# Altium integrated library Transistor.IntLib: 3457 symbols (part 64 of 78)
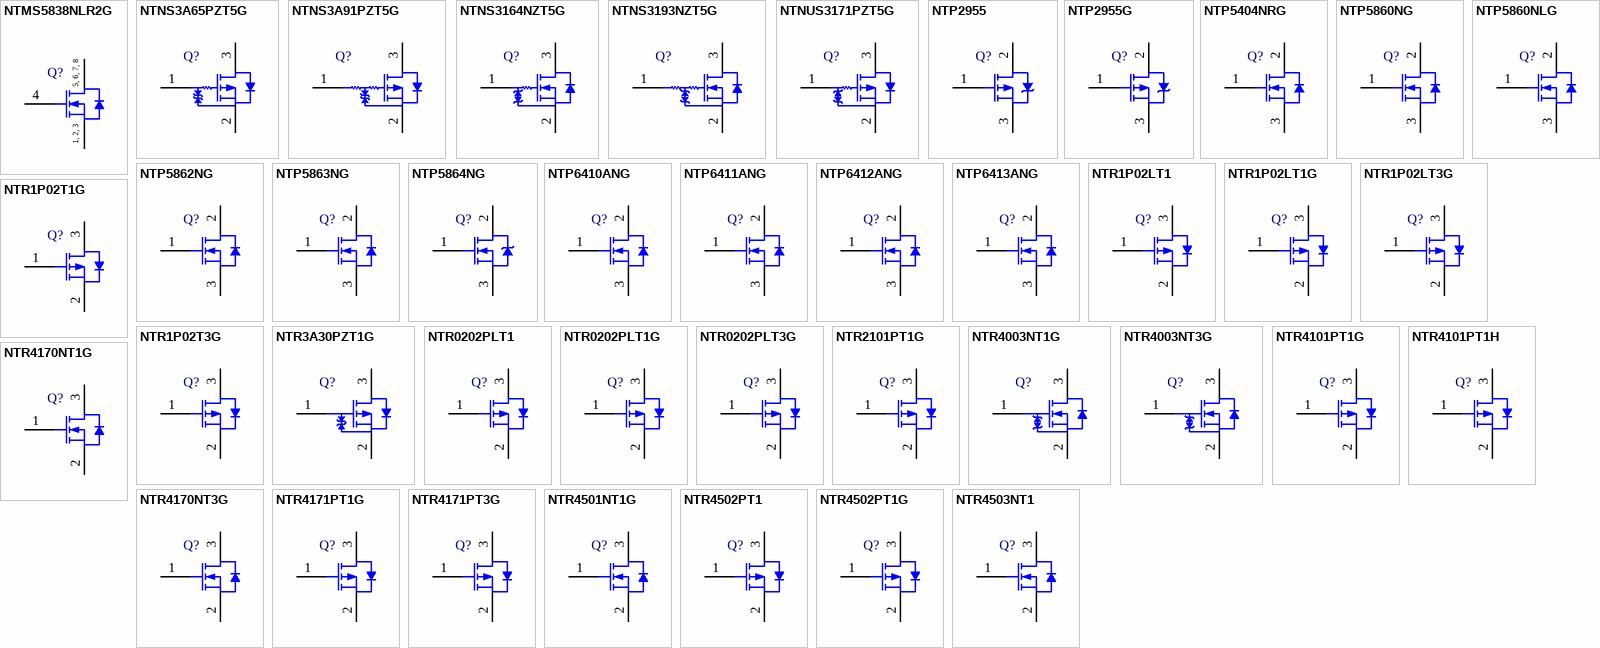
[diagram p157: symbols NTMS5838NLR2G to NTR4503NT1]

## NTNS3193NZT5G
designator Q?
Small Signal MOSFET, 20 V, 224 mA, Single N-Channel, 3-Pin XLLGA, Pb-Free, Tape and Reel; Manufacturer: On Semiconductor; PartNumber: NTNS3193NZT5G; Channel Polarity: N Channel; Ciss Typ (pF): 15.8; Coss Typ (pF): 3.5; Crss Typ (pF): 2.4; ID Max (A): 0.224; V(BR)DSS Min (V): 20; VGS Max (V): 8; VGS(th) Max (V): 1; DatasheetVersion: Rev. 1; PackageVersion: Rev. O, 09/2012; PackageReference: XLLGA-3-713AB; PackageDescription: 3-Pin Ultra Small and Thin Package, Body 0.62 x 0.62 mm, Pitch 0.35 mm; Configuration: Single; Package Type: xLLGA-3; Packing: Tape and Reel; RoHS: Pb-Free; Mounting Technology: Surface Mount; ComponentLink1Description: Manufacturer URL; ComponentLink1URL: http://www.onsemi.com/; ComponentLink2Description: Datasheet; ComponentLink2URL: http://www.onsemi.cn/pub_link/Collateral/NTNS3193NZ-D.PDF; ComponentLink3Description: Package Specification; ComponentLink3URL: http://www.onsemi.cn/pub_link/Collateral/713AB.PDF
footprint ONSC-XLLGA-3-713AB_V (XLLGA, 3-Leads, Body 0.62x0.62mm, Pitch 0.35mm)
pins: 1 G, 2 S, 3 D

## NTNUS3171PZT5G
designator Q?
Small Signal MOSFET, -20 V, -200 mA, Single P-Channel, 3-Pin SOT-1123, Pb-Free, Tape and Reel; Manufacturer: On Semiconductor; PartNumber: NTNUS3171PZT5G; Channel Polarity: P Channel; Ciss Typ (pF): 13; Coss Typ (pF): 3.4; Crss Typ (pF): 1.6; ID Max (A): 0.2; V(BR)DSS Min (V): 20; VGS Max (V): 8; VGS(th) Max (V): 1; DatasheetVersion: Rev. 1; PackageVersion: Rev. C, 11/2011; PackageReference: SOT-1123-3-524AA; PackageDescription: 3-Pin Small Outline Transistor, Body 0.8 x 0.6 mm, Pitch 0.375 mm; Configuration: Single; Package Type: SOT-1123-3; Packing: Tape and Reel; RoHS: Pb-Free; Mounting Technology: Surface Mount; ComponentLink1Description: Manufacturer URL; ComponentLink1URL: http://www.onsemi.com/; ComponentLink2Description: Datasheet; ComponentLink2URL: http://www.onsemi.cn/pub_link/Collateral/NTNUS3171PZ-D.PDF; ComponentLink3Description: Package Specification; ComponentLink3URL: http://www.onsemi.cn/pub_link/Collateral/524AA.PDF
footprint ONSC-SOT-1123-3-524AA_V (SOT223, 3-Leads, Body 0.8x0.6mm, Pitch 0.38mm)
pins: 1 G, 2 S, 3 D

## NTP2955
designator Q?
Power MOSFET, -60 V, -12 A, Single P-Channel, 3-Pin TO-220, Tube; Manufacturer: On Semiconductor; PartNumber: NTP2955; Channel Polarity: P Channel; Ciss Typ (pF): 507; Coss Typ (pF): 150; Crss Typ (pF): 48; ID Max (A): 12; Qrr Typ (nC): 126; V(BR)DSS Min (V): 60; VGS Max (V): 20; VGS(th) Max (V): 4; DatasheetVersion: Rev. 2; PackageVersion: Rev. AA; PackageReference: TO-220-3-221A-09_AA; PackageDescription: 3-Pin Flange Mount, Vertical Straight Lead, Body 9.97 x 4.445 mm, Pitch 2.54 mm; Configuration: Single; Package Type: TO-220-3; Packing: Tube; Mounting Technology: Through Hole; ComponentLink1Description: Manufacturer URL; ComponentLink1URL: http://www.onsemi.com/; ComponentLink2Description: Datasheet; ComponentLink2URL: http://www.onsemi.cn/pub_link/Collateral/NTP2955-D.PDF; ComponentLink3Description: Package Specification; ComponentLink3URL: http://www.onsemi.com/pub_link/Collateral/MAC16C-D.PDF
footprint ONSC-TO-220-3-221A-09_AA (FM, 3-Leads, Body 10.3x4.85mm, Pitch 2.54mm)
pins: 1 G, 2 D, 3 S

## NTP2955G
designator Q?
Power MOSFET, -60 V, -12 A, Single P-Channel, 3-Pin TO-220, Pb-Free, Tube; Manufacturer: On Semiconductor; PartNumber: NTP2955G; Channel Polarity: P Channel; Ciss Typ (pF): 507; Coss Typ (pF): 150; Crss Typ (pF): 48; ID Max (A): 12; Qrr Typ (nC): 126; V(BR)DSS Min (V): 60; VGS Max (V): 20; VGS(th) Max (V): 4; DatasheetVersion: Rev. 2; PackageVersion: Rev. AA; PackageReference: TO-220-3-221A-09_AA; PackageDescription: 3-Pin Flange Mount, Vertical Straight Lead, Body 9.97 x 4.445 mm, Pitch 2.54 mm; Configuration: Single; Package Type: TO-220-3; Packing: Tube; RoHS: Pb-Free; Mounting Technology: Through Hole; ComponentLink1Description: Manufacturer URL; ComponentLink1URL: http://www.onsemi.com/; ComponentLink2Description: Datasheet; ComponentLink2URL: http://www.onsemi.cn/pub_link/Collateral/NTP2955-D.PDF; ComponentLink3Description: Package Specification; ComponentLink3URL: http://www.onsemi.com/pub_link/Collateral/MAC16C-D.PDF
footprint ONSC-TO-220-3-221A-09_AA (FM, 3-Leads, Body 10.3x4.85mm, Pitch 2.54mm)
pins: 1 G, 2 D, 3 S

## NTP5404NRG
designator Q?
Power MOSFET, 40 V, 167 A, Single N-Channel, 3-Pin TO-220, Pb-Free, Tube; Manufacturer: On Semiconductor; PartNumber: NTP5404NRG; Channel Polarity: N Channel; Ciss Typ (pF): 4300; Coss Typ (pF): 1075; Crss Typ (pF): 450; ID Max (A): 167; Qrr Typ (nC): 140; V(BR)DSS Min (V): 40; VGS Max (V): 20; VGS(th) Max (V): 3.5; DatasheetVersion: Rev. 7; PackageVersion: Rev. AG, 09/2011; PackageReference: TO-220-3-221A-09; PackageDescription: 3-Pin Flange Mount, Vertical Straight Lead, Body 9.97 x 4.445 mm, Pitch 2.54 mm; Configuration: Single; Package Type: TO-220-3; Packing: Tube; RoHS: Pb-Free; Mounting Technology: Through Hole; ComponentLink1Description: Manufacturer URL; ComponentLink1URL: http://www.onsemi.com/; ComponentLink2Description: Datasheet; ComponentLink2URL: http://www.onsemi.cn/pub_link/Collateral/NTB5404N-D.PDF; ComponentLink3Description: Package Specification; ComponentLink3URL: http://www.onsemi.com/pub_link/Collateral/221A-09.PDF
footprint ONSC-TO-220-3-221A-09 (FM, 3-Leads, Body 10.3x4.85mm, Pitch 2.54mm)
pins: 1 G, 2 D, 3 S

## NTP5860NG
designator Q?
N-Channel Power MOSFET, 60 V, 220 A, 3 mOhm, 3-Pin TO-220, Pb-Free, Tube; Manufacturer: On Semiconductor; PartNumber: NTP5860NG; Channel Polarity: N Channel; Ciss Typ (pF): 10760; Configuration: Single; Coss Typ (pF): 1125; Crss Typ (pF): 700; ID Max (A): 220; PD Max (W): 283; Qrr Typ (nC): 76; V(BR)DSS Min (V): 60; VGS Max (V): 20; VGS(th) Max (V): 4; DatasheetVersion: Rev. 2; PackageVersion: Rev. AF; PackageReference: TO-220-3-221A-09_AF; PackageDescription: 3-Pin Flange Mount, Vertical Straight Lead, Body 9.97 x 4.445 mm, Pitch 2.54 mm; Package Type: TO-220-3; Packing: Tube; RoHS: Pb-Free; Mounting Technology: Through Hole; ComponentLink1Description: Manufacturer URL; ComponentLink1URL: http://www.onsemi.com/; ComponentLink2Description: Datasheet; ComponentLink2URL: http://www.onsemi.cn/pub_link/Collateral/NTB5860N-D.PDF; ComponentLink3Description: Package Specification; ComponentLink3URL: http://www.onsemi.cn/pub_link/Collateral/MCR8S-D.PDF
footprint ONSC-TO-220-3-221A-09_AF (FM, 3-Leads, Body 10.3x4.85mm, Pitch 2.54mm)
pins: 1 G, 2 D, 3 S

## NTP5860NLG
designator Q?
N-Channel Power MOSFET, 60 V, 220 A, 3 mOhm, 3-Pin TO-220, Pb-Free, Tube; Manufacturer: On Semiconductor; PartNumber: NTP5860NLG; Channel Polarity: N Channel; Ciss Typ (pF): 13216; Configuration: Single; Coss Typ (pF): 1127; Crss Typ (pF): 752; ID Max (A): 220; PD Max (W): 283; Qrr Typ (nC): 71; V(BR)DSS Min (V): 60; VGS Max (V): 20; VGS(th) Max (V): 3; DatasheetVersion: Rev. 1; PackageVersion: Rev. AF; PackageReference: TO-220-3-221A-09_AF; PackageDescription: 3-Pin Flange Mount, Vertical Straight Lead, Body 9.97 x 4.445 mm, Pitch 2.54 mm; Package Type: TO-220-3; Packing: Tube; RoHS: Pb-Free; Mounting Technology: Through Hole; ComponentLink1Description: Manufacturer URL; ComponentLink1URL: http://www.onsemi.com/; ComponentLink2Description: Datasheet; ComponentLink2URL: http://www.onsemi.cn/pub_link/Collateral/NTB5860NL-D.PDF; ComponentLink3Description: Package Specification; ComponentLink3URL: http://www.onsemi.cn/pub_link/Collateral/MCR8S-D.PDF
footprint ONSC-TO-220-3-221A-09_AF (FM, 3-Leads, Body 10.3x4.85mm, Pitch 2.54mm)
pins: 1 G, 2 D, 3 S

## NTP5862NG
designator Q?
N-Channel Power MOSFET, 60 V, 98 A, 5.7 mOhm, 3-Pin TO-220, Pb-Free, Tube; Manufacturer: On Semiconductor; PartNumber: NTP5862NG; Channel Polarity: N Channel; Ciss Typ (pF): 5050; Configuration: Single; Coss Typ (pF): 500; Crss Typ (pF): 300; ID Max (A): 98; PD Max (W): 115; Qrr Typ (nC): 40; V(BR)DSS Min (V): 60; VGS(th) Max (V): 4; DatasheetVersion: Rev. 2; PackageVersion: Rev. AG, 09/2011; PackageReference: TO-220-3-221A-09; PackageDescription: 3-Pin Flange Mount, Vertical Straight Lead, Body 9.97 x 4.445 mm, Pitch 2.54 mm; Package Type: DPAK-3, IPAK-4; Packing: Tube; RoHS: Pb-Free; Mounting Technology: Through Hole; ComponentLink1Description: Manufacturer URL; ComponentLink1URL: http://www.onsemi.com/; ComponentLink2Description: Datasheet; ComponentLink2URL: http://www.onsemi.com/pub_link/Collateral/NTD5862N-D.PDF; ComponentLink3Description: Package Specification; ComponentLink3URL: http://www.onsemi.com/pub_link/Collateral/221A-09.PDF
footprint ONSC-TO-220-3-221A-09 (FM, 3-Leads, Body 10.3x4.85mm, Pitch 2.54mm)
pins: 1 G, 2 D, 3 S

## NTP5863NG
designator Q?
N-Channel Power MOSFET, 60 V, 97 A, 7.8 mOhm, 3-Pin TO-220, Pb-Free, Tube; Manufacturer: On Semiconductor; PartNumber: NTP5863NG; Channel Polarity: N Channel; Ciss Typ (pF): 3200; Configuration: Single; Coss Typ (pF): 350; Crss Typ (pF): 230; ID Max (A): 97; PD Max (W): 150; Qrr Typ (nC): 28; V(BR)DSS Min (V): 60; VGS Max (V): 20; VGS(th) Max (V): 4; DatasheetVersion: Rev. 2; PackageVersion: Rev. AF; PackageReference: TO-220-3-221A-09_AF; PackageDescription: 3-Pin Flange Mount, Vertical Straight Lead, Body 9.97 x 4.445 mm, Pitch 2.54 mm; Package Type: TO-220-3; Packing: Tube; RoHS: Pb-Free; Mounting Technology: Through Hole; ComponentLink1Description: Manufacturer URL; ComponentLink1URL: http://www.onsemi.com/; ComponentLink2Description: Datasheet; ComponentLink2URL: http://www.onsemi.cn/pub_link/Collateral/NTP5863N-D.PDF; ComponentLink3Description: Package Specification; ComponentLink3URL: http://www.onsemi.cn/pub_link/Collateral/MCR8S-D.PDF
footprint ONSC-TO-220-3-221A-09_AF (FM, 3-Leads, Body 10.3x4.85mm, Pitch 2.54mm)
pins: 1 G, 2 D, 3 S

## NTP5864NG
designator Q?
Power MOSFET, 60 V, 63 A, 12.4 mOhm, 3-Pin TO-220, Pb-Free, Tube; Manufacturer: On Semiconductor; PartNumber: NTP5864NG; Channel Polarity: N Channel; Ciss Typ (pF): 1680; Configuration: Single; Coss Typ (pF): 189; Crss Typ (pF): 124; ID Max (A): 63; Qrr Typ (nC): 20; V(BR)DSS Min (V): 60; VGS(th) Max (V): 4; DatasheetVersion: Rev. 0; PackageVersion: Rev. AF; PackageReference: TO-220-3-221A-09_AF; PackageDescription: 3-Pin Flange Mount, Vertical Straight Lead, Body 9.97 x 4.445 mm, Pitch 2.54 mm; Package Type: TO-220-3; Packing: Tube; RoHS: Pb-Free; VGS Max (V): 20; Mounting Technology: Through Hole; ComponentLink1Description: Manufacturer URL; ComponentLink1URL: http://www.onsemi.com/; ComponentLink2Description: Datasheet; ComponentLink2URL: http://www.onsemi.cn/pub_link/Collateral/NTP5864N-D.PDF; ComponentLink3Description: Package Specification; ComponentLink3URL: http://www.onsemi.cn/pub_link/Collateral/MCR8S-D.PDF
footprint ONSC-TO-220-3-221A-09_AF (FM, 3-Leads, Body 10.3x4.85mm, Pitch 2.54mm)
pins: 1 G, 2 D, 3 S

## NTP6410ANG
designator Q?
N-Channel Power MOSFET, 100 V, 76 A, 13 mOhm, 3-Pin TO-220, Pb-Free, Tube; Manufacturer: On Semiconductor; PartNumber: NTP6410ANG; Channel Polarity: N Channel; Ciss Typ (pF): 4500; Configuration: Single; Coss Typ (pF): 650; Crss Typ (pF): 250; ID Max (A): 76; PD Max (W): 188; Qrr Typ (nC): 300; V(BR)DSS Min (V): 100; VGS Max (V): 20; VGS(th) Max (V): 4; DatasheetVersion: Rev. 1; PackageVersion: Rev. AG, 09/2011; PackageReference: TO-220-3-221A-09; PackageDescription: 3-Pin Flange Mount, Vertical Straight Lead, Body 9.97 x 4.445 mm, Pitch 2.54 mm; Package Type: TO-220-3; Packing: Tube; RoHS: Pb-Free; Mounting Technology: Through Hole; ComponentLink1Description: Manufacturer URL; ComponentLink1URL: http://www.onsemi.com/; ComponentLink2Description: Datasheet; ComponentLink2URL: http://www.onsemi.cn/pub_link/Collateral/NTB6410AN-D.PDF; ComponentLink3Description: Package Specification; ComponentLink3URL: http://www.onsemi.com/pub_link/Collateral/221A-09.PDF
footprint ONSC-TO-220-3-221A-09 (FM, 3-Leads, Body 10.3x4.85mm, Pitch 2.54mm)
pins: 1 G, 2 D, 3 S

## NTP6411ANG
designator Q?
N-Channel Power MOSFET, 100 V, 77 A, 14 mOhm, 3-Pin TO-220, Pb-Free, Tube; Manufacturer: On Semiconductor; PartNumber: NTP6411ANG; Channel Polarity: N Channel; Ciss Typ (pF): 3700; Configuration: Single; Coss Typ (pF): 550; Crss Typ (pF): 200; ID Max (A): 77; PD Max (W): 217; Qrr Typ (nC): 330; V(BR)DSS Min (V): 100; VGS Max (V): 20; VGS(th) Max (V): 4; DatasheetVersion: Rev. 1; PackageVersion: Rev. AF; PackageReference: TO-220-3-221A-09_AF; PackageDescription: 3-Pin Flange Mount, Vertical Straight Lead, Body 9.97 x 4.445 mm, Pitch 2.54 mm; Package Type: TO-220-3; Packing: Tube; RoHS: Pb-Free; Mounting Technology: Through Hole; ComponentLink1Description: Manufacturer URL; ComponentLink1URL: http://www.onsemi.com/; ComponentLink2Description: Datasheet; ComponentLink2URL: http://www.onsemi.cn/pub_link/Collateral/NTB6411N-D.PDF; ComponentLink3Description: Package Specification; ComponentLink3URL: http://www.onsemi.cn/pub_link/Collateral/MCR8S-D.PDF
footprint ONSC-TO-220-3-221A-09_AF (FM, 3-Leads, Body 10.3x4.85mm, Pitch 2.54mm)
pins: 1 G, 2 D, 3 S

## NTP6412ANG
designator Q?
N-Channel Power MOSFET, 100 V, 58 A, 18.2 mOhm, 3-Pin TO-220, Pb-Free, Tube; Manufacturer: On Semiconductor; PartNumber: NTP6412ANG; Channel Polarity: N Channel; Ciss Typ (pF): 2700; Configuration: Single; Coss Typ (pF): 400; Crss Typ (pF): 150; ID Max (A): 58; PD Max (W): 167; Qrr Typ (nC): 270; V(BR)DSS Min (V): 100; VGS Max (V): 20; VGS(th) Max (V): 4; DatasheetVersion: Rev. 1; PackageVersion: Rev. AG, 09/2011; PackageReference: TO-220-3-221A-09; PackageDescription: 3-Pin Flange Mount, Vertical Straight Lead, Body 9.97 x 4.445 mm, Pitch 2.54 mm; Package Type: TO-220-3; Packing: Tube; RoHS: Pb-Free; Mounting Technology: Through Hole; ComponentLink1Description: Manufacturer URL; ComponentLink1URL: http://www.onsemi.com/; ComponentLink2Description: Datasheet; ComponentLink2URL: http://www.onsemi.cn/pub_link/Collateral/NTB6412AN-D.PDF; ComponentLink3Description: Package Specification; ComponentLink3URL: http://www.onsemi.com/pub_link/Collateral/221A-09.PDF
footprint ONSC-TO-220-3-221A-09 (FM, 3-Leads, Body 10.3x4.85mm, Pitch 2.54mm)
pins: 1 G, 2 D, 3 S

## NTP6413ANG
designator Q?
N-Channel Power MOSFET, 100 V, 42 A, 28 mOhm, 3-Pin TO-220, Pb-Free, Tube; Manufacturer: On Semiconductor; PartNumber: NTP6413ANG; Channel Polarity: N Channel; Ciss Typ (pF): 1800; Configuration: Single; Coss Typ (pF): 280; Crss Typ (pF): 100; ID Max (A): 42; PD Max (W): 136; Qrr Typ (nC): 230; VGS Max (V): 20; VGS(th) Max (V): 4; DatasheetVersion: Rev. 3; PackageVersion: Rev. AG, 09/2011; PackageReference: TO-220-3-221A-09; PackageDescription: 3-Pin Flange Mount, Vertical Straight Lead, Body 9.97 x 4.445 mm, Pitch 2.54 mm; Package Type: TO-220-3; Packing: Tube; RoHS: Pb-Free; V(BR)DSS Min (V): 100; Mounting Technology: Through Hole; ComponentLink1Description: Manufacturer URL; ComponentLink1URL: http://www.onsemi.com/; ComponentLink2Description: Datasheet; ComponentLink2URL: http://www.onsemi.cn/pub_link/Collateral/NTB6413AN-D.PDF; ComponentLink3Description: Package Specification; ComponentLink3URL: http://www.onsemi.com/pub_link/Collateral/221A-09.PDF
footprint ONSC-TO-220-3-221A-09 (FM, 3-Leads, Body 10.3x4.85mm, Pitch 2.54mm)
pins: 1 G, 2 D, 3 S

## NTR1P02LT1
designator Q?
Power MOSFET, -20 V, -1.3 A, P-Channel, 3-Pin SOT-23, Tape and Reel; Manufacturer: On Semiconductor; PartNumber: NTR1P02LT1; Channel Polarity: P Channel; Ciss Typ (pF): 225; Configuration: Single; Coss Typ (pF): 130; Crss Typ (pF): 55; ID Max (A): 1.3; PD Max (W): 0.4; Qrr Typ (nC): 8.5; V(BR)DSS Min (V): 20; VGS Max (V): 12; VGS(th) Max (V): 1.25; DatasheetVersion: Rev. 13; PackageVersion: Rev. AP, 11/2009; PackageReference: SOT-23-3-318-08; PackageDescription: 3-Pin Small Outline Transistor, Body 2.92 x 1.3 mm, Pitch 0.95 mm; Package Type: SOT-23-3; Packing: Tape and Reel; Mounting Technology: Surface Mount; ComponentLink1Description: Manufacturer URL; ComponentLink1URL: http://www.onsemi.com/; ComponentLink2Description: Datasheet; ComponentLink2URL: http://www.onsemi.cn/pub_link/Collateral/NTR1P02LT1-D.PDF; ComponentLink3Description: Package Specification; ComponentLink3URL: http://www.onsemi.cn/pub_link/Collateral/318-08.PDF
footprint ONSC-SOT-23-3-318-08_V (SOT23, 3-Leads, Body 2.92x1.3mm, Pitch 0.95mm)
pins: 1 G, 2 S, 3 D

## NTR1P02LT1G
designator Q?
Power MOSFET, -20 V, -1.3 A, P-Channel, 3-Pin SOT-23, Pb-Free, Tape and Reel; Manufacturer: On Semiconductor; PartNumber: NTR1P02LT1G; Channel Polarity: P Channel; Ciss Typ (pF): 225; Configuration: Single; Coss Typ (pF): 130; Crss Typ (pF): 55; ID Max (A): 1.3; PD Max (W): 0.4; Qrr Typ (nC): 8.5; V(BR)DSS Min (V): 20; VGS Max (V): 12; VGS(th) Max (V): 1.25; DatasheetVersion: Rev. 13; PackageVersion: Rev. AP, 11/2009; PackageReference: SOT-23-3-318-08; PackageDescription: 3-Pin Small Outline Transistor, Body 2.92 x 1.3 mm, Pitch 0.95 mm; Package Type: SOT-23-3; Packing: Tape and Reel; RoHS: Pb-Free; Mounting Technology: Surface Mount; ComponentLink1Description: Manufacturer URL; ComponentLink1URL: http://www.onsemi.com/; ComponentLink2Description: Datasheet; ComponentLink2URL: http://www.onsemi.cn/pub_link/Collateral/NTR1P02LT1-D.PDF; ComponentLink3Description: Package Specification; ComponentLink3URL: http://www.onsemi.cn/pub_link/Collateral/318-08.PDF
footprint ONSC-SOT-23-3-318-08_V (SOT23, 3-Leads, Body 2.92x1.3mm, Pitch 0.95mm)
pins: 1 G, 2 S, 3 D

## NTR1P02LT3G
designator Q?
Power MOSFET, -20 V, -1.3 A, P-Channel, 3-Pin SOT-23, Pb-Free, Tape and Reel; Manufacturer: On Semiconductor; PartNumber: NTR1P02LT3G; Channel Polarity: P Channel; Ciss Typ (pF): 225; Configuration: Single; Coss Typ (pF): 130; Crss Typ (pF): 55; ID Max (A): 1.3; PD Max (W): 0.4; Qrr Typ (nC): 8.5; V(BR)DSS Min (V): 20; VGS Max (V): 12; VGS(th) Max (V): 1.25; DatasheetVersion: Rev. 13; PackageVersion: Rev. AP, 11/2009; PackageReference: SOT-23-3-318-08; PackageDescription: 3-Pin Small Outline Transistor, Body 2.92 x 1.3 mm, Pitch 0.95 mm; Package Type: SOT-23-3; Packing: Tape and Reel; RoHS: Pb-Free; Mounting Technology: Surface Mount; ComponentLink1Description: Manufacturer URL; ComponentLink1URL: http://www.onsemi.com/; ComponentLink2Description: Datasheet; ComponentLink2URL: http://www.onsemi.cn/pub_link/Collateral/NTR1P02LT1-D.PDF; ComponentLink3Description: Package Specification; ComponentLink3URL: http://www.onsemi.cn/pub_link/Collateral/318-08.PDF
footprint ONSC-SOT-23-3-318-08_V (SOT23, 3-Leads, Body 2.92x1.3mm, Pitch 0.95mm)
pins: 1 G, 2 S, 3 D

## NTR1P02T1G
designator Q?
Power MOSFET, -20 V, -1 A, P-Channel, 3-Pin SOT-23, Pb-Free, Tape and Reel; Manufacturer: On Semiconductor; PartNumber: NTR1P02T1G; Channel Polarity: P Channel; Ciss Typ (pF): 165; Configuration: Single; Coss Typ (pF): 110; Crss Typ (pF): 35; ID Max (A): 1; PD Max (W): 0.4; Qrr Typ (nC): 8; V(BR)DSS Min (V): 20; VGS(th) Max (V): 2.3; DatasheetVersion: Rev. 7; PackageVersion: Rev. AP, 11/2009; PackageReference: SOT-23-3-318-08; PackageDescription: 3-Pin Small Outline Transistor, Body 2.92 x 1.3 mm, Pitch 0.95 mm; Package Type: SOT-23-3; Packing: Tape and Reel; RoHS: Pb-Free; VGS Max (V): 20; Mounting Technology: Surface Mount; ComponentLink1Description: Manufacturer URL; ComponentLink1URL: http://www.onsemi.com/; ComponentLink2Description: Datasheet; ComponentLink2URL: http://www.onsemi.cn/pub_link/Collateral/NTR1P02T1-D.PDF; ComponentLink3Description: Package Specification; ComponentLink3URL: http://www.onsemi.cn/pub_link/Collateral/318-08.PDF
footprint ONSC-SOT-23-3-318-08_V (SOT23, 3-Leads, Body 2.92x1.3mm, Pitch 0.95mm)
pins: 1 G, 2 S, 3 D

## NTR1P02T3G
designator Q?
Power MOSFET, -20 V, -1 A, P-Channel, 3-Pin SOT-23, Pb-Free, Tape and Reel; Manufacturer: On Semiconductor; PartNumber: NTR1P02T3G; Channel Polarity: P Channel; Ciss Typ (pF): 165; Configuration: Single; Coss Typ (pF): 110; Crss Typ (pF): 35; ID Max (A): 1; PD Max (W): 0.4; Qrr Typ (nC): 8; V(BR)DSS Min (V): 20; VGS(th) Max (V): 2.3; DatasheetVersion: Rev. 7; PackageVersion: Rev. AP, 11/2009; PackageReference: SOT-23-3-318-08; PackageDescription: 3-Pin Small Outline Transistor, Body 2.92 x 1.3 mm, Pitch 0.95 mm; Package Type: SOT-23-3; Packing: Tape and Reel; RoHS: Pb-Free; VGS Max (V): 20; Mounting Technology: Surface Mount; ComponentLink1Description: Manufacturer URL; ComponentLink1URL: http://www.onsemi.com/; ComponentLink2Description: Datasheet; ComponentLink2URL: http://www.onsemi.cn/pub_link/Collateral/NTR1P02T1-D.PDF; ComponentLink3Description: Package Specification; ComponentLink3URL: http://www.onsemi.cn/pub_link/Collateral/318-08.PDF
footprint ONSC-SOT-23-3-318-08_V (SOT23, 3-Leads, Body 2.92x1.3mm, Pitch 0.95mm)
pins: 1 G, 2 S, 3 D

## NTR3A30PZT1G
designator Q?
Power MOSFET, -20 V, -5.5 A, Single P-Channel, 3-Pin SOT-23, Pb-Free, Tape and Reel; Manufacturer: On Semiconductor; PartNumber: NTR3A30PZT1G; Channel Polarity: P Channel; Ciss Typ (pF): 1651; Coss Typ (pF): 148; Crss Typ (pF): 129; ID Max (A): 5.5; V(BR)DSS Min (V): 20; VGS Max (V): 8; VGS(th) Max (V): 1; DatasheetVersion: Rev. 1; PackageVersion: Rev. AP, 11/2009; PackageReference: SOT-23-3-318-08; PackageDescription: 3-Pin Small Outline Transistor, Body 2.92 x 1.3 mm, Pitch 0.95 mm; Supplier 1: Newark; Supplier Part Number 1: 97W6389; Supplier 2: Mouser; Supplier Part Number 2: 863-NTR3A30PZT1G; Configuration: Single; Package Type: SOT-23-3; Packing: Tape and Reel; RoHS: Pb-Free; Mounting Technology: Surface Mount; ComponentLink1Description: Manufacturer URL; ComponentLink1URL: http://www.onsemi.com/; ComponentLink2Description: Datasheet; ComponentLink2URL: http://www.onsemi.com/pub_link/Collateral/NTR3A30PZ-D.PDF; ComponentLink3Description: Package Specification; ComponentLink3URL: http://www.onsemi.cn/pub_link/Collateral/318-08.PDF
footprint ONSC-SOT-23-3-318-08_V (SOT23, 3-Leads, Body 2.92x1.3mm, Pitch 0.95mm)
pins: 1 G, 2 S, 3 D

## NTR0202PLT1
designator Q?
Power MOSFET, -20 V, -400 mA, P-Channel, 3-Pin SOT-23, Tape and Reel; Manufacturer: On Semiconductor; PartNumber: NTR0202PLT1; Channel Polarity: P Channel; Ciss Typ (pF): 70; Configuration: Single; Coss Typ (pF): 74; Crss Typ (pF): 26; ID Max (A): 0.4; PD Max (W): 0.225; Qrr Typ (nC): 7; V(BR)DSS Min (V): 20; VGS(th) Max (V): 2.3; DatasheetVersion: Rev. 5; PackageVersion: Rev. AP, 11/2009; PackageReference: SOT-23-3-318-08; PackageDescription: 3-Pin Small Outline Transistor, Body 2.92 x 1.3 mm, Pitch 0.95 mm; Package Type: SOT-23-3; Packing: Tape and Reel; VGS Max (V): 20; Mounting Technology: Surface Mount; ComponentLink1Description: Manufacturer URL; ComponentLink1URL: http://www.onsemi.com/; ComponentLink2Description: Datasheet; ComponentLink2URL: http://www.onsemi.cn/pub_link/Collateral/NTR0202PL-D.PDF; ComponentLink3Description: Package Specification; ComponentLink3URL: http://www.onsemi.cn/pub_link/Collateral/318-08.PDF
footprint ONSC-SOT-23-3-318-08_V (SOT23, 3-Leads, Body 2.92x1.3mm, Pitch 0.95mm)
pins: 1 G, 2 S, 3 D

## NTR0202PLT1G
designator Q?
Power MOSFET, -20 V, -400 mA, P-Channel, 3-Pin SOT-23, Pb-Free, Tape and Reel; Manufacturer: On Semiconductor; PartNumber: NTR0202PLT1G; Channel Polarity: P Channel; Ciss Typ (pF): 70; Configuration: Single; Coss Typ (pF): 74; Crss Typ (pF): 26; ID Max (A): 0.4; PD Max (W): 0.225; Qrr Typ (nC): 7; V(BR)DSS Min (V): 20; VGS(th) Max (V): 2.3; DatasheetVersion: Rev. 5; PackageVersion: Rev. AP, 11/2009; PackageReference: SOT-23-3-318-08; PackageDescription: 3-Pin Small Outline Transistor, Body 2.92 x 1.3 mm, Pitch 0.95 mm; Package Type: SOT-23-3; Packing: Tape and Reel; RoHS: Pb-Free; VGS Max (V): 20; Mounting Technology: Surface Mount; ComponentLink1Description: Manufacturer URL; ComponentLink1URL: http://www.onsemi.com/; ComponentLink2Description: Datasheet; ComponentLink2URL: http://www.onsemi.cn/pub_link/Collateral/NTR0202PL-D.PDF; ComponentLink3Description: Package Specification; ComponentLink3URL: http://www.onsemi.cn/pub_link/Collateral/318-08.PDF
footprint ONSC-SOT-23-3-318-08_V (SOT23, 3-Leads, Body 2.92x1.3mm, Pitch 0.95mm)
pins: 1 G, 2 S, 3 D

## NTR0202PLT3G
designator Q?
Power MOSFET, -20 V, -400 mA, P-Channel, 3-Pin SOT-23, Pb-Free, Tape and Reel; Manufacturer: On Semiconductor; PartNumber: NTR0202PLT3G; Channel Polarity: P Channel; Ciss Typ (pF): 70; Configuration: Single; Coss Typ (pF): 74; Crss Typ (pF): 26; ID Max (A): 0.4; PD Max (W): 0.225; Qrr Typ (nC): 7; V(BR)DSS Min (V): 20; VGS(th) Max (V): 2.3; DatasheetVersion: Rev. 5; PackageVersion: Rev. AP, 11/2009; PackageReference: SOT-23-3-318-08; PackageDescription: 3-Pin Small Outline Transistor, Body 2.92 x 1.3 mm, Pitch 0.95 mm; Package Type: SOT-23-3; Packing: Tape and Reel; RoHS: Pb-Free; VGS Max (V): 20; Mounting Technology: Surface Mount; ComponentLink1Description: Manufacturer URL; ComponentLink1URL: http://www.onsemi.com/; ComponentLink2Description: Datasheet; ComponentLink2URL: http://www.onsemi.cn/pub_link/Collateral/NTR0202PL-D.PDF; ComponentLink3Description: Package Specification; ComponentLink3URL: http://www.onsemi.cn/pub_link/Collateral/318-08.PDF
footprint ONSC-SOT-23-3-318-08_V (SOT23, 3-Leads, Body 2.92x1.3mm, Pitch 0.95mm)
pins: 1 G, 2 S, 3 D

## NTR2101PT1G
designator Q?
Small Signal MOSFET, -8 V, -3.7 A, Single P-Channel, 3-Pin SOT-23, Pb-Free, Tape and Reel; Manufacturer: On Semiconductor; PartNumber: NTR2101PT1G; Channel Polarity: P Channel; Ciss Typ (pF): 1173; Coss Typ (pF): 289; Crss Typ (pF): 218; ID Max (A): 3.7; PD Max (W): 0.96; V(BR)DSS Min (V): 8; VGS(th) Max (V): 1; DatasheetVersion: Rev. 6; PackageVersion: Rev. AP, 11/2009; PackageReference: SOT-23-3-318-08; PackageDescription: 3-Pin Small Outline Transistor, Body 2.92 x 1.3 mm, Pitch 0.95 mm; Configuration: Single; Package Type: SOT-23-3; Packing: Tape and Reel; RoHS: Pb-Free; VGS Max (V): 8; Mounting Technology: Surface Mount; ComponentLink1Description: Manufacturer URL; ComponentLink1URL: http://www.onsemi.com/; ComponentLink2Description: Datasheet; ComponentLink2URL: http://www.onsemi.cn/pub_link/Collateral/NTR2101P-D.PDF; ComponentLink3Description: Package Specification; ComponentLink3URL: http://www.onsemi.cn/pub_link/Collateral/318-08.PDF
footprint ONSC-SOT-23-3-318-08_V (SOT23, 3-Leads, Body 2.92x1.3mm, Pitch 0.95mm)
pins: 1 G, 2 S, 3 D

## NTR4003NT1G
designator Q?
Small Signal MOSFET, 30 V, 0.56 A, Single N-Channe, 3-Pin SOT-23, Pb-Free, Tape and Reel; Manufacturer: On Semiconductor; PartNumber: NTR4003NT1G; Channel Polarity: N Channel; Ciss Typ (pF): 21; Coss Typ (pF): 19.7; Crss Typ (pF): 8.1; ID Max (A): 0.56; V(BR)DSS Min (V): 30; VGS Max (V): 20; VGS(th) Max (V): 1.4; DatasheetVersion: Rev. 3; PackageVersion: Rev. AP, 11/2009; PackageReference: SOT-23-3-318-08; PackageDescription: 3-Pin Small Outline Transistor, Body 2.92 x 1.3 mm, Pitch 0.95 mm; Supplier 1: Digi-Key; Supplier Part Number 1: NTR4003NT1GOSTR-ND; Supplier 2: Digi-Key; Supplier Part Number 2: NTR4003NT1GOSCT-ND; Supplier 3: Digi-Key; Supplier Part Number 3: NTR4003NT1GOSDKR-ND; Supplier 4: Farnell; Supplier Part Number 4: 1453635RL; Supplier 5: Farnell; Supplier Part Number 5: 1453635; Supplier 6: Newark; Supplier Part Number 6: 58M9926; Supplier 7: Newark; Supplier Part Number 7: 10N9588; Supplier 8: Newark; Supplier Part Number 8: 27M2766; Supplier 9: Mouser; Supplier Part Number 9: 863-NTR4003NT1G; Configuration: Single; Package Type: SOT-23-3; Packing: Tape and Reel; RoHS: Pb-Free; Mounting Technology: Surface Mount; ComponentLink1Description: Manufacturer URL; ComponentLink1URL: http://www.onsemi.com/; ComponentLink2Description: Datasheet; ComponentLink2URL: http://www.onsemi.cn/pub_link/Collateral/NTR4003N-D.PDF; ComponentLink3Description: Package Specification; ComponentLink3URL: http://www.onsemi.cn/pub_link/Collateral/318-08.PDF
footprint ONSC-SOT-23-3-318-08_V (SOT23, 3-Leads, Body 2.92x1.3mm, Pitch 0.95mm)
pins: 1 G, 2 S, 3 D

## NTR4003NT3G
designator Q?
Small Signal MOSFET, 30 V, 0.56 A, Single N-Channe, 3-Pin SOT-23, Pb-Free, Tape and Reel; Manufacturer: On Semiconductor; PartNumber: NTR4003NT3G; Channel Polarity: N Channel; Ciss Typ (pF): 21; Coss Typ (pF): 19.7; Crss Typ (pF): 8.1; ID Max (A): 0.56; V(BR)DSS Min (V): 30; VGS Max (V): 20; VGS(th) Max (V): 1.4; DatasheetVersion: Rev. 3; PackageVersion: Rev. AP, 11/2009; PackageReference: SOT-23-3-318-08; PackageDescription: 3-Pin Small Outline Transistor, Body 2.92 x 1.3 mm, Pitch 0.95 mm; Supplier 1: Digi-Key; Supplier Part Number 1: NTR4003NT3GOSTR-ND; Supplier 2: Digi-Key; Supplier Part Number 2: NTR4003NT3GOSCT-ND; Supplier 3: Digi-Key; Supplier Part Number 3: NTR4003NT3GOSDKR-ND; Supplier 4: Farnell; Supplier Part Number 4: 2101820; Supplier 5: Farnell; Supplier Part Number 5: 2369155; Supplier 6: Mouser; Supplier Part Number 6: 863-NTR4003NT3G; Configuration: Single; Package Type: SOT-23-3; Packing: Tape and Reel; RoHS: Pb-Free; Mounting Technology: Surface Mount; ComponentLink1Description: Manufacturer URL; ComponentLink1URL: http://www.onsemi.com/; ComponentLink2Description: Datasheet; ComponentLink2URL: http://www.onsemi.cn/pub_link/Collateral/NTR4003N-D.PDF; ComponentLink3Description: Package Specification; ComponentLink3URL: http://www.onsemi.cn/pub_link/Collateral/318-08.PDF
footprint ONSC-SOT-23-3-318-08_V (SOT23, 3-Leads, Body 2.92x1.3mm, Pitch 0.95mm)
pins: 1 G, 2 S, 3 D

## NTR4101PT1G
designator Q?
Trench Power MOSFET, -20 V, Single P-Channel, 3-Pin SOT-23, Pb-Free, Tape and Reel; Manufacturer: On Semiconductor; PartNumber: NTR4101PT1G; Channel Polarity: P Channel; Ciss Typ (pF): 675; Coss Typ (pF): 100; Crss Typ (pF): 75; ID Max (A): 3.2; Qrr Typ (nC): 1008; V(BR)DSS Min (V): 20; VGS Max (V): 8; VGS(th) Max (V): 1.2; DatasheetVersion: Rev. 9; PackageVersion: Rev. AP, 11/2009; PackageReference: SOT-23-3-318-08; PackageDescription: 3-Pin Small Outline Transistor, Body 2.92 x 1.3 mm, Pitch 0.95 mm; Supplier 1: Digi-Key; Supplier Part Number 1: NTR4101PT1GOSTR-ND; Supplier 2: Digi-Key; Supplier Part Number 2: NTR4101PT1GOSCT-ND; Supplier 3: Digi-Key; Supplier Part Number 3: NTR4101PT1GOSDKR-ND; Supplier 4: Farnell; Supplier Part Number 4: 2317885; Supplier 5: Farnell; Supplier Part Number 5: 1431303RL; Supplier 6: Farnell; Supplier Part Number 6: 1431303; Supplier 7: Newark; Supplier Part Number 7: 88H5127; Supplier 8: Newark; Supplier Part Number 8: 10P1661; Supplier 9: Mouser; Supplier Part Number 9: 863-NTR4101PT1G; Configuration: Single; Package Type: SOT-23-3; Packing: Tape and Reel; RoHS: Pb-Free; Mounting Technology: Surface Mount; ComponentLink1Description: Manufacturer URL; ComponentLink1URL: http://www.onsemi.com/; ComponentLink2Description: Datasheet; ComponentLink2URL: http://www.onsemi.cn/pub_link/Collateral/NTR4101P-D.PDF; ComponentLink3Description: Package Specification; ComponentLink3URL: http://www.onsemi.cn/pub_link/Collateral/318-08.PDF
footprint ONSC-SOT-23-3-318-08_V (SOT23, 3-Leads, Body 2.92x1.3mm, Pitch 0.95mm)
pins: 1 G, 2 S, 3 D

## NTR4101PT1H
designator Q?
Trench Power MOSFET, -20 V, Single P-Channel, 3-Pin SOT-23, Pb-Free, Tape and Reel; Manufacturer: On Semiconductor; PartNumber: NTR4101PT1H; Channel Polarity: P Channel; Ciss Typ (pF): 675; Coss Typ (pF): 100; Crss Typ (pF): 75; ID Max (A): 3.2; Qrr Typ (nC): 1008; V(BR)DSS Min (V): 20; VGS Max (V): 8; VGS(th) Max (V): 1.2; DatasheetVersion: Rev. 9; PackageVersion: Rev. AP, 11/2009; PackageReference: SOT-23-3-318-08; PackageDescription: 3-Pin Small Outline Transistor, Body 2.92 x 1.3 mm, Pitch 0.95 mm; Supplier 1: Newark; Supplier Part Number 1: 60W1811; Supplier 2: Mouser; Supplier Part Number 2: 863-NTR4101PT1H; Configuration: Single; Package Type: SOT-23-3; Packing: Tape and Reel; RoHS: Pb-Free; Mounting Technology: Surface Mount; ComponentLink1Description: Manufacturer URL; ComponentLink1URL: http://www.onsemi.com/; ComponentLink2Description: Datasheet; ComponentLink2URL: http://www.onsemi.cn/pub_link/Collateral/NTR4101P-D.PDF; ComponentLink3Description: Package Specification; ComponentLink3URL: http://www.onsemi.cn/pub_link/Collateral/318-08.PDF
footprint ONSC-SOT-23-3-318-08_V (SOT23, 3-Leads, Body 2.92x1.3mm, Pitch 0.95mm)
pins: 1 G, 2 S, 3 D

## NTR4170NT1G
designator Q?
Power MOSFET, 30 V, 3.1 A, Single N-Channe, 3-Pin SOT-23, Pb-Free, Tape and Reel; Manufacturer: On Semiconductor; PartNumber: NTR4170NT1G; Channel Polarity: N Channel; Ciss Typ (pF): 432; Coss Typ (pF): 53.6; Crss Typ (pF): 37.1; Qrr Typ (nC): 2.9; V(BR)DSS Min (V): 30; VGS Max (V): 12; VGS(th) Max (V): 1.4; DatasheetVersion: Rev. 1; PackageVersion: Rev. AP, 11/2009; PackageReference: SOT-23-3-318-08; PackageDescription: 3-Pin Small Outline Transistor, Body 2.92 x 1.3 mm, Pitch 0.95 mm; Supplier 1: Digi-Key; Supplier Part Number 1: NTR4170NT1GOSTR-ND; Supplier 2: Digi-Key; Supplier Part Number 2: NTR4170NT1GOSCT-ND; Supplier 3: Digi-Key; Supplier Part Number 3: NTR4170NT1GOSDKR-ND; Supplier 4: Farnell; Supplier Part Number 4: 2368458; Supplier 5: Farnell; Supplier Part Number 5: 1887064; Supplier 6: Newark; Supplier Part Number 6: 05R9180; Supplier 7: Newark; Supplier Part Number 7: 08R4025; Supplier 8: Mouser; Supplier Part Number 8: 863-NTR4170NT1G; Configuration: Single; Package Type: SOT-23-3; Packing: Tape and Reel; RoHS: Pb-Free; Mounting Technology: Surface Mount; ComponentLink1Description: Manufacturer URL; ComponentLink1URL: http://www.onsemi.com/; ComponentLink2Description: Datasheet; ComponentLink2URL: http://www.onsemi.cn/pub_link/Collateral/NTR4170N-D.PDF; ComponentLink3Description: Package Specification; ComponentLink3URL: http://www.onsemi.cn/pub_link/Collateral/318-08.PDF
footprint ONSC-SOT-23-3-318-08_V (SOT23, 3-Leads, Body 2.92x1.3mm, Pitch 0.95mm)
pins: 1 G, 2 S, 3 D

## NTR4170NT3G
designator Q?
Power MOSFET, 30 V, 3.1 A, Single N-Channe, 3-Pin SOT-23, Pb-Free, Tape and Reel; Manufacturer: On Semiconductor; PartNumber: NTR4170NT3G; Channel Polarity: N Channel; Ciss Typ (pF): 432; Coss Typ (pF): 53.6; Crss Typ (pF): 37.1; Qrr Typ (nC): 2.9; V(BR)DSS Min (V): 30; VGS Max (V): 12; VGS(th) Max (V): 1.4; DatasheetVersion: Rev. 1; PackageVersion: Rev. AP, 11/2009; PackageReference: SOT-23-3-318-08; PackageDescription: 3-Pin Small Outline Transistor, Body 2.92 x 1.3 mm, Pitch 0.95 mm; Supplier 1: Digi-Key; Supplier Part Number 1: NTR4170NT3G-ND; Supplier 2: Mouser; Supplier Part Number 2: 863-NTR4170NT3G; Configuration: Single; Package Type: SOT-23-3; Packing: Tape and Reel; RoHS: Pb-Free; Mounting Technology: Surface Mount; ComponentLink1Description: Manufacturer URL; ComponentLink1URL: http://www.onsemi.com/; ComponentLink2Description: Datasheet; ComponentLink2URL: http://www.onsemi.cn/pub_link/Collateral/NTR4170N-D.PDF; ComponentLink3Description: Package Specification; ComponentLink3URL: http://www.onsemi.cn/pub_link/Collateral/318-08.PDF
footprint ONSC-SOT-23-3-318-08_V (SOT23, 3-Leads, Body 2.92x1.3mm, Pitch 0.95mm)
pins: 1 G, 2 S, 3 D

## NTR4171PT1G
designator Q?
Power MOSFET, -30 V, 3.5 A, Single P-Channel, 3-Pin SOT-23, Pb-Free, Tape and Reel; Manufacturer: On Semiconductor; PartNumber: NTR4171PT1G; Channel Polarity: P Channel; Ciss Typ (pF): 720; Coss Typ (pF): 95; Crss Typ (pF): 65; Qrr Typ (nC): 8; V(BR)DSS Min (V): 30; VGS Max (V): 12; VGS(th) Max (V): 1.4; DatasheetVersion: Rev. 1; PackageVersion: Rev. AP, 11/2009; PackageReference: SOT-23-3-318-08; PackageDescription: 3-Pin Small Outline Transistor, Body 2.92 x 1.3 mm, Pitch 0.95 mm; Supplier 1: Digi-Key; Supplier Part Number 1: NTR4171PT1GOSTR-ND; Supplier 2: Digi-Key; Supplier Part Number 2: NTR4171PT1GOSCT-ND; Supplier 3: Digi-Key; Supplier Part Number 3: NTR4171PT1GOSDKR-ND; Supplier 4: Farnell; Supplier Part Number 4: 2317888; Supplier 5: Farnell; Supplier Part Number 5: 1899514; Supplier 6: Newark; Supplier Part Number 6: 08R4026; Supplier 7: Newark; Supplier Part Number 7: 05R9181; Supplier 8: Mouser; Supplier Part Number 8: 863-NTR4171PT1G; Configuration: Single; Package Type: SOT-23-3; Packing: Tape and Reel; RoHS: Pb-Free; Mounting Technology: Surface Mount; ComponentLink1Description: Manufacturer URL; ComponentLink1URL: http://www.onsemi.com/; ComponentLink2Description: Datasheet; ComponentLink2URL: http://www.onsemi.cn/pub_link/Collateral/NTR4171P-D.PDF; ComponentLink3Description: Package Specification; ComponentLink3URL: http://www.onsemi.cn/pub_link/Collateral/318-08.PDF
footprint ONSC-SOT-23-3-318-08_V (SOT23, 3-Leads, Body 2.92x1.3mm, Pitch 0.95mm)
pins: 1 G, 2 S, 3 D

## NTR4171PT3G
designator Q?
Power MOSFET, -30 V, 3.5 A, Single P-Channel, 3-Pin SOT-23, Pb-Free, Tape and Reel; Manufacturer: On Semiconductor; PartNumber: NTR4171PT3G; Channel Polarity: P Channel; Ciss Typ (pF): 720; Coss Typ (pF): 95; Crss Typ (pF): 65; Qrr Typ (nC): 8; V(BR)DSS Min (V): 30; VGS Max (V): 12; VGS(th) Max (V): 1.4; DatasheetVersion: Rev. 1; PackageVersion: Rev. AP, 11/2009; PackageReference: SOT-23-3-318-08; PackageDescription: 3-Pin Small Outline Transistor, Body 2.92 x 1.3 mm, Pitch 0.95 mm; Supplier 1: Digi-Key; Supplier Part Number 1: NTR4171PT3G-ND; Supplier 2: Mouser; Supplier Part Number 2: 863-NTR4171PT3G; Configuration: Single; Package Type: SOT-23-3; Packing: Tape and Reel; RoHS: Pb-Free; Mounting Technology: Surface Mount; ComponentLink1Description: Manufacturer URL; ComponentLink1URL: http://www.onsemi.com/; ComponentLink2Description: Datasheet; ComponentLink2URL: http://www.onsemi.cn/pub_link/Collateral/NTR4171P-D.PDF; ComponentLink3Description: Package Specification; ComponentLink3URL: http://www.onsemi.cn/pub_link/Collateral/318-08.PDF
footprint ONSC-SOT-23-3-318-08_V (SOT23, 3-Leads, Body 2.92x1.3mm, Pitch 0.95mm)
pins: 1 G, 2 S, 3 D

## NTR4501NT1G
designator Q?
Power MOSFET, 20 V, 3.2 A, Single N-Channel, 3-Pin SOT-23, Pb-Free, Tape and Reel; Manufacturer: On Semiconductor; PartNumber: NTR4501NT1G; Channel Polarity: N Channel; Ciss Typ (pF): 200; Coss Typ (pF): 80; Crss Typ (pF): 50; PD Max (W): 1.25; Qrr Typ (nC): 3; V(BR)DSS Min (V): 20; VGS Max (V): 12; VGS(th) Max (V): 1.2; DatasheetVersion: Rev. 13; PackageVersion: Rev. AP, 11/2009; PackageReference: SOT-23-3-318-08; PackageDescription: 3-Pin Small Outline Transistor, Body 2.92 x 1.3 mm, Pitch 0.95 mm; Supplier 1: Digi-Key; Supplier Part Number 1: NTR4501NT1GOSTR-ND; Supplier 2: Digi-Key; Supplier Part Number 2: NTR4501NT1GOSCT-ND; Supplier 3: Digi-Key; Supplier Part Number 3: NTR4501NT1GOSDKR-ND; Supplier 4: Farnell; Supplier Part Number 4: 1431305; Supplier 5: Farnell; Supplier Part Number 5: 1431305RL; Supplier 6: Newark; Supplier Part Number 6: 45J2175; Supplier 7: Newark; Supplier Part Number 7: 06R3476; Supplier 8: Mouser; Supplier Part Number 8: 863-NTR4501NT1G; Configuration: Single; Package Type: SOT-23-3; Packing: Tape and Reel; RoHS: Pb-Free; Mounting Technology: Surface Mount; ComponentLink1Description: Manufacturer URL; ComponentLink1URL: http://www.onsemi.com/; ComponentLink2Description: Datasheet; ComponentLink2URL: http://www.onsemi.cn/pub_link/Collateral/NTR4501N-D.PDF; ComponentLink3Description: Package Specification; ComponentLink3URL: http://www.onsemi.cn/pub_link/Collateral/318-08.PDF
footprint ONSC-SOT-23-3-318-08_V (SOT23, 3-Leads, Body 2.92x1.3mm, Pitch 0.95mm)
pins: 1 G, 2 S, 3 D

## NTR4502PT1
designator Q?
Power MOSFET, -30 V, -1.95 A, Single, P-Channel, 3-Pin SOT-23, Tape and Reel; Manufacturer: On Semiconductor; PartNumber: NTR4502PT1; Channel Polarity: P Channel; Ciss Typ (pF): 200; Coss Typ (pF): 80; Crss Typ (pF): 50; ID Max (A): 1.95; V(BR)DSS Min (V): 30; VGS Max (V): 20; VGS(th) Max (V): 3; DatasheetVersion: Rev. 5; PackageVersion: Rev. AP, 11/2009; PackageReference: SOT-23-3-318-08; PackageDescription: 3-Pin Small Outline Transistor, Body 2.92 x 1.3 mm, Pitch 0.95 mm; Supplier 1: Digi-Key; Supplier Part Number 1: NTR4502PT1-ND; Configuration: Single; Package Type: SOT-23-3; Packing: Tape and Reel; Mounting Technology: Surface Mount; ComponentLink1Description: Manufacturer URL; ComponentLink1URL: http://www.onsemi.com/; ComponentLink2Description: Datasheet; ComponentLink2URL: http://www.onsemi.cn/pub_link/Collateral/NTR4502P-D.PDF; ComponentLink3Description: Package Specification; ComponentLink3URL: http://www.onsemi.cn/pub_link/Collateral/318-08.PDF
footprint ONSC-SOT-23-3-318-08_V (SOT23, 3-Leads, Body 2.92x1.3mm, Pitch 0.95mm)
pins: 1 G, 2 S, 3 D

## NTR4502PT1G
designator Q?
Power MOSFET, -30 V, -1.95 A, Single, P-Channel, 3-Pin SOT-23, Pb-Free, Tape and Reel; Manufacturer: On Semiconductor; PartNumber: NTR4502PT1G; Channel Polarity: P Channel; Ciss Typ (pF): 200; Coss Typ (pF): 80; Crss Typ (pF): 50; ID Max (A): 1.95; V(BR)DSS Min (V): 30; VGS Max (V): 20; VGS(th) Max (V): 3; DatasheetVersion: Rev. 5; PackageVersion: Rev. AP, 11/2009; PackageReference: SOT-23-3-318-08; PackageDescription: 3-Pin Small Outline Transistor, Body 2.92 x 1.3 mm, Pitch 0.95 mm; Supplier 1: Digi-Key; Supplier Part Number 1: NTR4502PT1GOSTR-ND; Supplier 2: Digi-Key; Supplier Part Number 2: NTR4502PT1GOSCT-ND; Supplier 3: Digi-Key; Supplier Part Number 3: NTR4502PT1GOSDKR-ND; Supplier 4: Farnell; Supplier Part Number 4: 1431308; Supplier 5: Farnell; Supplier Part Number 5: 1431308RL; Supplier 6: Newark; Supplier Part Number 6: 10N9589; Supplier 7: Newark; Supplier Part Number 7: 98H0966; Supplier 8: Mouser; Supplier Part Number 8: 863-NTR4502PT1G; Configuration: Single; Package Type: SOT-23-3; Packing: Tape and Reel; RoHS: Pb-Free; Mounting Technology: Surface Mount; ComponentLink1Description: Manufacturer URL; ComponentLink1URL: http://www.onsemi.com/; ComponentLink2Description: Datasheet; ComponentLink2URL: http://www.onsemi.cn/pub_link/Collateral/NTR4502P-D.PDF; ComponentLink3Description: Package Specification; ComponentLink3URL: http://www.onsemi.cn/pub_link/Collateral/318-08.PDF
footprint ONSC-SOT-23-3-318-08_V (SOT23, 3-Leads, Body 2.92x1.3mm, Pitch 0.95mm)
pins: 1 G, 2 S, 3 D

## NTR4503NT1
designator Q?
Power MOSFET, 30 V, 2.5 A, Single N-Channel, 3-Pin SOT-23, Tape and Reel; Manufacturer: On Semiconductor; PartNumber: NTR4503NT1; Channel Polarity: N Channel; ID Max (A): 2.5; Qrr Typ (nC): 4; V(BR)DSS Min (V): 30; VGS Max (V): 20; VGS(th) Max (V): 3; DatasheetVersion: Rev. 6; PackageVersion: Rev. AP, 11/2009; PackageReference: SOT-23-3-318-08; PackageDescription: 3-Pin Small Outline Transistor, Body 2.92 x 1.3 mm, Pitch 0.95 mm; Supplier 1: Digi-Key; Supplier Part Number 1: NTR4503NT1-ND; Configuration: Single; Package Type: SOT-23-3; Packing: Tape and Reel; Mounting Technology: Surface Mount; ComponentLink1Description: Manufacturer URL; ComponentLink1URL: http://www.onsemi.com/; ComponentLink2Description: Datasheet; ComponentLink2URL: http://www.onsemi.cn/pub_link/Collateral/NTR4503N-D.PDF; ComponentLink3Description: Package Specification; ComponentLink3URL: http://www.onsemi.cn/pub_link/Collateral/318-08.PDF
footprint ONSC-SOT-23-3-318-08_V (SOT23, 3-Leads, Body 2.92x1.3mm, Pitch 0.95mm)
pins: 1 G, 2 S, 3 D

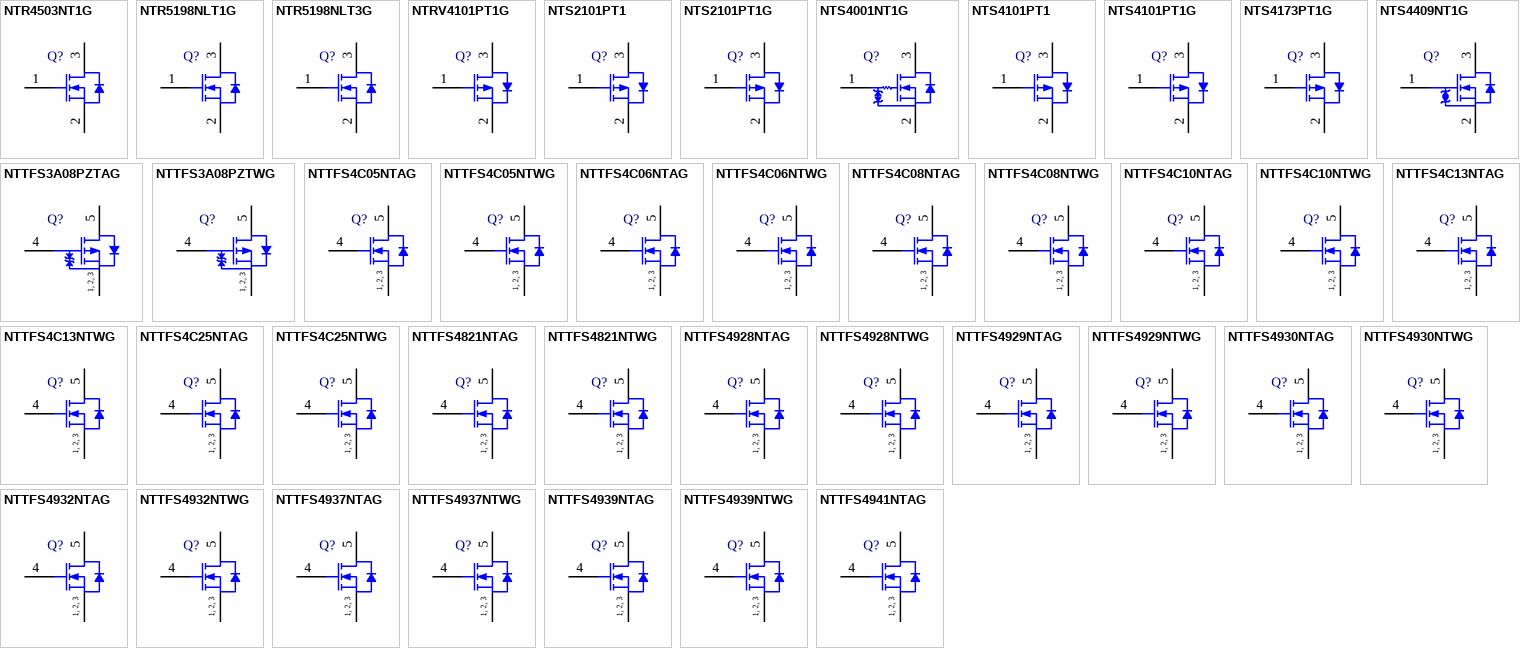
[diagram p78: symbols NTR4503NT1G to NTTFS4941NTAG]

## NTR4503NT1G
designator Q?
Power MOSFET, 30 V, 2.5 A, Single N-Channel, 3-Pin SOT-23, Pb-Free, Tape and Reel; Manufacturer: On Semiconductor; PartNumber: NTR4503NT1G; Channel Polarity: N Channel; ID Max (A): 2.5; Qrr Typ (nC): 4; V(BR)DSS Min (V): 30; VGS Max (V): 20; VGS(th) Max (V): 3; DatasheetVersion: Rev. 6; PackageVersion: Rev. AP, 11/2009; PackageReference: SOT-23-3-318-08; PackageDescription: 3-Pin Small Outline Transistor, Body 2.92 x 1.3 mm, Pitch 0.95 mm; Supplier 1: Digi-Key; Supplier Part Number 1: NTR4503NT1GOSTR-ND; Supplier 2: Digi-Key; Supplier Part Number 2: NTR4503NT1GOSCT-ND; Supplier 3: Digi-Key; Supplier Part Number 3: NTR4503NT1GOSDKR-ND; Supplier 4: Farnell; Supplier Part Number 4: 1431309; Supplier 5: Farnell; Supplier Part Number 5: 1431309RL; Supplier 6: Farnell; Supplier Part Number 6: 1899563; Supplier 7: Newark; Supplier Part Number 7: 10N9590; Supplier 8: Newark; Supplier Part Number 8: 45J2177; Supplier 9: Mouser; Supplier Part Number 9: 863-NTR4503NT1G; Configuration: Single; Package Type: SOT-23-3; Packing: Tape and Reel; RoHS: Pb-Free; Mounting Technology: Surface Mount; ComponentLink1Description: Manufacturer URL; ComponentLink1URL: http://www.onsemi.com/; ComponentLink2Description: Datasheet; ComponentLink2URL: http://www.onsemi.cn/pub_link/Collateral/NTR4503N-D.PDF; ComponentLink3Description: Package Specification; ComponentLink3URL: http://www.onsemi.cn/pub_link/Collateral/318-08.PDF
footprint ONSC-SOT-23-3-318-08_V (SOT23, 3-Leads, Body 2.92x1.3mm, Pitch 0.95mm)
pins: 1 G, 2 S, 3 D

## NTR5198NLT1G
designator Q?
Power MOSFET, 60 V, 155 mOhm, Single N-Channel Logic Level, 3-Pin SOT-23, Pb-Free, Tape and Reel; Manufacturer: On Semiconductor; PartNumber: NTR5198NLT1G; Channel Polarity: N Channel; Ciss Typ (pF): 182; Coss Typ (pF): 25; Crss Typ (pF): 16; ID Max (A): 2.2; Qrr Typ (nC): 6; V(BR)DSS Min (V): 60; VGS Max (V): 20; VGS(th) Max (V): 2.5; DatasheetVersion: Rev. 0; PackageVersion: Rev. AP, 11/2009; PackageReference: SOT-23-3-318-08; PackageDescription: 3-Pin Small Outline Transistor, Body 2.92 x 1.3 mm, Pitch 0.95 mm; Supplier 1: Digi-Key; Supplier Part Number 1: NTR5198NLT1GOSTR-ND; Supplier 2: Digi-Key; Supplier Part Number 2: NTR5198NLT1GOSCT-ND; Supplier 3: Digi-Key; Supplier Part Number 3: NTR5198NLT1GOSDKR-ND; Supplier 4: Newark; Supplier Part Number 4: 11X3689; Supplier 5: Mouser; Supplier Part Number 5: 863-NTR5198NLT1G; Configuration: Single; Package Type: SOT-23-3; Packing: Tape and Reel; RoHS: Pb-Free; Mounting Technology: Surface Mount; ComponentLink1Description: Manufacturer URL; ComponentLink1URL: http://www.onsemi.com/; ComponentLink2Description: Datasheet; ComponentLink2URL: http://www.onsemi.com/pub_link/Collateral/NTR5198NL-D.PDF; ComponentLink3Description: Package Specification; ComponentLink3URL: http://www.onsemi.cn/pub_link/Collateral/318-08.PDF
footprint ONSC-SOT-23-3-318-08_V (SOT23, 3-Leads, Body 2.92x1.3mm, Pitch 0.95mm)
pins: 1 G, 2 S, 3 D

## NTR5198NLT3G
designator Q?
Power MOSFET, 60 V, 155 mOhm, Single N-Channel Logic Level, 3-Pin SOT-23, Pb-Free, Tape and Reel; Manufacturer: On Semiconductor; PartNumber: NTR5198NLT3G; Channel Polarity: N Channel; Ciss Typ (pF): 182; Coss Typ (pF): 25; Crss Typ (pF): 16; ID Max (A): 2.2; Qrr Typ (nC): 6; V(BR)DSS Min (V): 60; VGS Max (V): 20; VGS(th) Max (V): 2.5; DatasheetVersion: Rev. 0; PackageVersion: Rev. AP, 11/2009; PackageReference: SOT-23-3-318-08; PackageDescription: 3-Pin Small Outline Transistor, Body 2.92 x 1.3 mm, Pitch 0.95 mm; Supplier 1: Newark; Supplier Part Number 1: 11X3690; Supplier 2: Mouser; Supplier Part Number 2: 863-NTR5198NLT3G; Configuration: Single; Package Type: SOT-23-3; Packing: Tape and Reel; RoHS: Pb-Free; Mounting Technology: Surface Mount; ComponentLink1Description: Manufacturer URL; ComponentLink1URL: http://www.onsemi.com/; ComponentLink2Description: Datasheet; ComponentLink2URL: http://www.onsemi.com/pub_link/Collateral/NTR5198NL-D.PDF; ComponentLink3Description: Package Specification; ComponentLink3URL: http://www.onsemi.cn/pub_link/Collateral/318-08.PDF
footprint ONSC-SOT-23-3-318-08_V (SOT23, 3-Leads, Body 2.92x1.3mm, Pitch 0.95mm)
pins: 1 G, 2 S, 3 D

## NTRV4101PT1G
designator Q?
Trench Power MOSFET, -20 V, Single P-Channel, 3-Pin SOT-23, Pb-Free, Tape and Reel; Manufacturer: On Semiconductor; PartNumber: NTRV4101PT1G; Channel Polarity: P Channel; Ciss Typ (pF): 675; Coss Typ (pF): 100; Crss Typ (pF): 75; ID Max (A): 3.2; Qrr Typ (nC): 1008; V(BR)DSS Min (V): 20; VGS Max (V): 8; VGS(th) Max (V): 1.2; DatasheetVersion: Rev. 9; PackageVersion: Rev. AP, 11/2009; PackageReference: SOT-23-3-318-08; PackageDescription: 3-Pin Small Outline Transistor, Body 2.92 x 1.3 mm, Pitch 0.95 mm; Supplier 1: Digi-Key; Supplier Part Number 1: NTRV4101PT1G-ND; Supplier 2: Newark; Supplier Part Number 2: 76T6758; Supplier 3: Mouser; Supplier Part Number 3: 863-NTRV4101PT1G; Configuration: Single; Package Type: SOT-23-3; Packing: Tape and Reel; RoHS: Pb-Free; Mounting Technology: Surface Mount; ComponentLink1Description: Manufacturer URL; ComponentLink1URL: http://www.onsemi.com/; ComponentLink2Description: Datasheet; ComponentLink2URL: http://www.onsemi.cn/pub_link/Collateral/NTR4101P-D.PDF; ComponentLink3Description: Package Specification; ComponentLink3URL: http://www.onsemi.cn/pub_link/Collateral/318-08.PDF
footprint ONSC-SOT-23-3-318-08_V (SOT23, 3-Leads, Body 2.92x1.3mm, Pitch 0.95mm)
pins: 1 G, 2 S, 3 D

## NTS2101PT1
designator Q?
Power MOSFET, -8 V, -1.4 A, Single P-Channel, 3-Pin SOT-323, Tape and Reel; Manufacturer: On Semiconductor; PartNumber: NTS2101PT1; Channel Polarity: P Channel; Ciss Typ (pF): 640; Coss Typ (pF): 120; Crss Typ (pF): 82; ID Max (A): 1.4; Qrr Typ (nC): 9.5; V(BR)DSS Min (V): 8; DatasheetVersion: Rev. 1; PackageVersion: Rev. N, 11/2008; PackageReference: SOT-323-3-419-04; PackageDescription: 3-Pin Small Outline Transistor, Body 2 x 1.25 mm, Pitch 0.65 mm; Supplier 1: Digi-Key; Supplier Part Number 1: NTS2101PT1-ND; Configuration: Single; Package Type: SC-70-3 / SOT-323-3; Packing: Tape and Reel; VGS Max (V): 8; Mounting Technology: Surface Mount; ComponentLink1Description: Manufacturer URL; ComponentLink1URL: http://www.onsemi.com/; ComponentLink2Description: Datasheet; ComponentLink2URL: http://www.onsemi.cn/pub_link/Collateral/NTS2101P-D.PDF; ComponentLink3Description: Package Specification; ComponentLink3URL: http://www.onsemi.com/pub_link/Collateral/419-04.PDF
footprint ONSC-SOT-323-3-419-04_V (SOT23, 3-Leads, Body 2x1.25mm, Pitch 0.65mm)
pins: 1 G, 2 S, 3 D